# Altium schematic symbol library Schlib1.SchLib: 76 symbols (part 1 of 3)
Pins are listed as number, name and electrical type; pins without a type are passive.

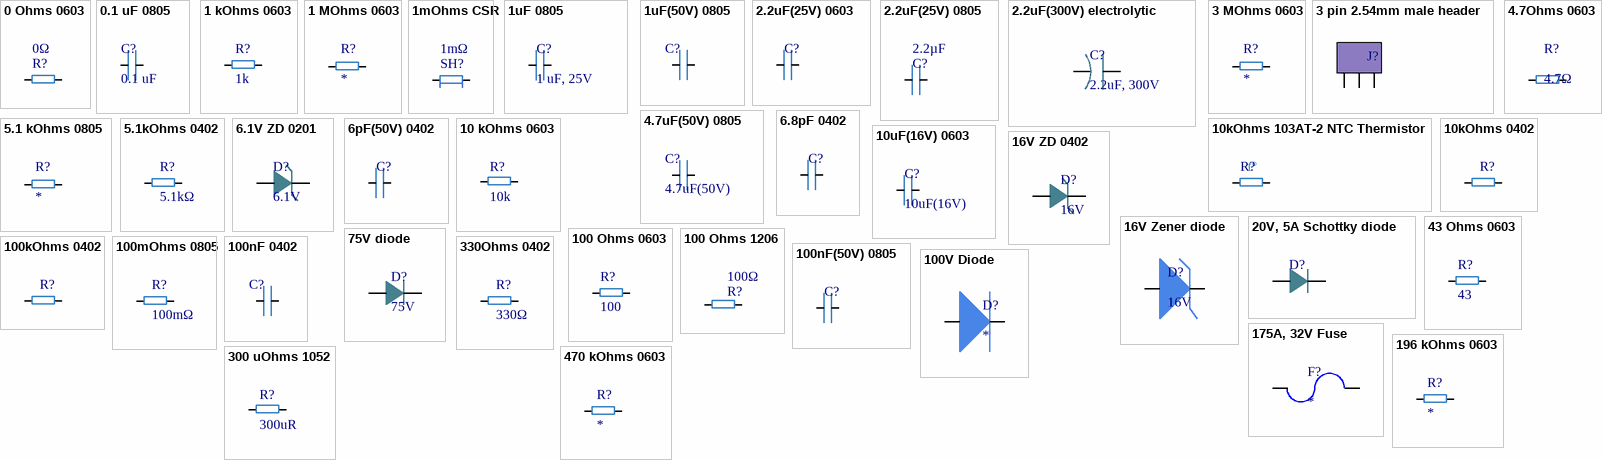
[diagram p0: symbols 0 Ohms 0603 to 470 kOhms 0603]

## 0 Ohms 0603
designator R?, comment value 0Ω  (hidden comment: 0.25W)
Res Metal Plate 0603 0 Ohm Pad SMD T/R Automotive; Manufacturer: Stackpole Electronics; Manufacturer Part Number: HCJ0603ZT0R00; Power Dissipation: 250mW; Supplier: Avnet; Supplier Part Number: HCJ0603ZT0R00; RoHS: Compliant; Category: Chip SMD Resistors; Stock: 155000; Pricing: 5000=0.07857, 10000=0.07432, 20000=0.07237, 40000=0.07051, 80000=0.06875 (USD); Case/Package: 0603; Case Code (Imperial): 0603; Case Code (Metric): 1608; Height: 500µm; Length: 1.5494mm; Lifecycle Status: Production; Max Operating Temperature: 155°C; Min Operating Temperature: -55°C; Mounting Technology: Surface Mount; Number of Terminals: 2; Number of Terminations: 2; Packaging: Tape & Reel (TR); Power Rating: 250mW; Radiation Hardening: No; REACH SVHC: Yes; Schedule B: 8533210045, 8533210045|8533210045, 8533210045|8533210045|8533210045, 8533210045|8533210045|8533210045|8533210045; Termination: Wraparound; Width: 800µm; ComponentLink1URL: https://datasheet.octopart.com:443/HCJ0603ZT0R00-Stackpole-Electronics-datasheet-170576570.pdf?src-supplier=IHS; ComponentLink1Description: https://datasheet.octopart.com:443/HCJ0603ZT0R00-Stackpole-Electronics-datasheet-170576570.pdf?src-supplier=IHS; ComponentLink2URL: https://datasheet.octopart.com:443/HCJ0603ZT0R00-Stackpole-Electronics-datasheet-56871323.pdf?src-supplier=Upverter; ComponentLink2Description: https://datasheet.octopart.com:443/HCJ0603ZT0R00-Stackpole-Electronics-datasheet-56871323.pdf?src-supplier=Upverter; ComponentLink3URL: https://datasheet.octopart.com:443/HCJ0603ZT0R00-Stackpole-Electronics-datasheet-189104157.pdf?src-supplier=Master+Electronics; ComponentLink3Description: https://datasheet.octopart.com:443/HCJ0603ZT0R00-Stackpole-Electronics-datasheet-189104157.pdf?src-supplier=Master+Electronics; ComponentLink4URL: https://datasheet.octopart.com:443/HCJ0603ZT0R00-Stackpole-Electronics-datasheet-141193803.pdf?src-supplier=Stackpole+Electronics; ComponentLink4Description: https://datasheet.octopart.com:443/HCJ0603ZT0R00-Stackpole-Electronics-datasheet-141193803.pdf?src-supplier=Stackpole+Electronics; ComponentLink5URL: https://datasheet.octopart.com:443/HCJ0603ZT0R00-Stackpole-Electronics-datasheet-45185688.pdf?src-supplier=Stackpole+Electronics; ComponentLink5Description: https://datasheet.octopart.com:443/HCJ0603ZT0R00-Stackpole-Electronics-datasheet-45185688.pdf?src-supplier=Stackpole+Electronics; ComponentLink6URL: https://datasheet.octopart.com:443/HCJ0603ZT0R00-Stackpole-Electronics-datasheet-156956881.pdf?src-supplier=Electro+Sonic; ComponentLink6Description: https://datasheet.octopart.com:443/HCJ0603ZT0R00-Stackpole-Electronics-datasheet-156956881.pdf?src-supplier=Electro+Sonic; ComponentLink7URL: http://sigma.octopart.com:80/141158211/reach_statement/Stackpole-Electronics-HCJ0603ZT0R00.pdf?src-supplier=Compliance+Statements; ComponentLink7Description: http://sigma.octopart.com:80/141158211/reach_statement/Stackpole-Electronics-HCJ0603ZT0R00.pdf?src-supplier=Compliance+Statements; ComponentLink8URL: http://sigma.octopart.com:80/141158212/rohs_statement/Stackpole-Electronics-HCJ0603ZT0R00.pdf?src-supplier=Compliance+Statements; ComponentLink8Description: http://sigma.octopart.com:80/141158212/rohs_statement/Stackpole-Electronics-HCJ0603ZT0R00.pdf?src-supplier=Compliance+Statements
footprint BO_CR0603
pins: 1 27, 2 28

## 0.1 uF 0805
designator C?, comment 0.1 uF
Ceramic Capacitor, Multilayer, Ceramic, 50V, 5% +Tol, 5% -Tol, X7R, 15% TC, 0.1uF, Surface Mount, 0805; Manufacturer: Kyocera AVX; Manufacturer Part Number: 08055C104J4T2A; Value: 100nF; Multilayer: Yes; Reference Standard: AEC-Q200; Supplier: Mouser; Supplier Part Number: 581-08055C104J4T2A; RoHS: Yes; Category: Ceramic Capacitors; Stock: 13072; Pricing: 1=0.16, 10=0.088, 50=0.088, 100=0.056, 1000=0.039, 10000=0.026 (USD); Mounting Technology: Surface Mount; Pins: 2; Dielectric Material: Ceramic; Package Shape: Rectangular; Case/Package: 0805; Terminal Finish: Nickel; Min Operating Temperature: -55°C; Max Operating Temperature: 125°C; JESD-609 Code: e3; Capacitor Type: Ceramic; Tolerance  (fill in as +-): 5%; Package Style: SMTMeter; Packaging: Tape and Reel; Tolerance (fill in as +-): 5%; Rated DC Voltage (URdc): 50V; Temperature Characteristics Code: X7R; Termination: Wraparound; Length: 2.01mm; Width: 1.25mm; Height: 1.27mm; Reach SVHC Compliant: Yes; RoHS Compliant: Yes; ComponentLink1URL: https://datasheet.ciiva.com:443/pdfs/VipMasterIC/IC/AVXC/AVXC-S-A0009957027/AVXC-S-A0009957027-1.pdf?src-supplier=IHS+Markit; ComponentLink1Description: https://datasheet.ciiva.com:443/pdfs/VipMasterIC/IC/AVXC/AVXC-S-A0009957027/AVXC-S-A0009957027-1.pdf?src-supplier=IHS+Markit; ComponentLink2URL: https://datasheet.ciiva.com/45259/cauto-45259509.pdf?src-supplier=Digikey; ComponentLink2Description: https://datasheet.ciiva.com/45259/cauto-45259509.pdf?src-supplier=Digikey; ComponentLink3URL: https://datasheet.ciiva.com/11504/cauto-11504263.pdf?src-supplier=Avnet; ComponentLink3Description: https://datasheet.ciiva.com/11504/cauto-11504263.pdf?src-supplier=Avnet; ComponentLink4URL: https://datasheet.ciiva.com/5442/cauto-5442795.pdf?src-supplier=Mouser; ComponentLink4Description: https://datasheet.ciiva.com/5442/cauto-5442795.pdf?src-supplier=Mouser; ComponentLink5URL: https://datasheet.ciiva.com/46449/681197-46449293.pdf?src-supplier=Element14; ComponentLink5Description: https://datasheet.ciiva.com/46449/681197-46449293.pdf?src-supplier=Element14; ComponentLink6URL: https://datasheet.ciiva.com/7812/88813-7812350.pdf?src-supplier=Element14; ComponentLink6Description: https://datasheet.ciiva.com/7812/88813-7812350.pdf?src-supplier=Element14
footprint C0805
pins: 1 26, 2 25

## 1 kOhms 0603
designator R?, comment 1k
Fixed Resistor, Metal Glaze/thick Film, 0.1W, 1000ohm, 75V, 5% +/-Tol, 200ppm/Cel, Surface Mount, 0603; Manufacturer: Bourns; Manufacturer Part Number: CR0603-JW-102ELF; Power: 100mW; Rated Temperature: 70°C; Value: 1kR; Working Voltage: 50V; Temperature Coefficient (ppm/Cel): 200; Package Height: 0.45mm; Package Length: 1.6mm; Package Width: 0.8mm; Supplier: Avnet; Supplier Part Number: CR0603-JW-102ELF; RoHS: Yes; Category: Chip SMD Resistors; Stock: 15000; Pricing: 5000=0.00196, 10000=0.00195, 20000=0.00194, 30000=0.00193, 40000=0.00192 (USD); Mounting Technology: Surface Mount; Pins: 2; Package Shape: Rectangular; Case/Package: 0603; Terminal Finish: Nickel; Min Operating Temperature: -55°C; Max Operating Temperature: 155°C; Tolerance: 5%; JESD-609 Code: e3; Resistor Type: FIXED RESISTOR; Construction: Chip; Packaging: Tape and Reel; Technology: RUTHENIUM OXIDE; Termination: Wraparound; Reach SVHC Compliant: Yes; RoHS Compliant: Yes; ComponentLink1URL: https://datasheet.ciiva.com:443/pdfs/VipMasterIC/IC/BOUR/BOUR-S-A0009069624/BOUR-S-A0009069624-1.pdf?src-supplier=IHS+Markit; ComponentLink1Description: https://datasheet.ciiva.com:443/pdfs/VipMasterIC/IC/BOUR/BOUR-S-A0009069624/BOUR-S-A0009069624-1.pdf?src-supplier=IHS+Markit; ComponentLink2URL: https://datasheet.ciiva.com/7986/1902866-7986188.pdf?src-supplier=Element14; ComponentLink2Description: https://datasheet.ciiva.com/7986/1902866-7986188.pdf?src-supplier=Element14; ComponentLink3URL: https://datasheet.ciiva.com/46383/691949-46383788.pdf?src-supplier=Element14; ComponentLink3Description: https://datasheet.ciiva.com/46383/691949-46383788.pdf?src-supplier=Element14; ComponentLink4URL: https://datasheet.ciiva.com/16757/70154685-16757477.pdf?src-supplier=Allied+Electronics; ComponentLink4Description: https://datasheet.ciiva.com/16757/70154685-16757477.pdf?src-supplier=Allied+Electronics; ComponentLink5URL: https://datasheet.ciiva.com/9123/chpreztr-9123706.pdf?src-supplier=Avnet; ComponentLink5Description: https://datasheet.ciiva.com/9123/chpreztr-9123706.pdf?src-supplier=Avnet; ComponentLink6URL: https://datasheet.ciiva.com/6564/chpreztr-6564439.pdf?src-supplier=Digikey; ComponentLink6Description: https://datasheet.ciiva.com/6564/chpreztr-6564439.pdf?src-supplier=Digikey; ComponentLink7URL: https://datasheet.ciiva.com/6564/chpreztr-6564441.pdf?src-supplier=Digikey; ComponentLink7Description: https://datasheet.ciiva.com/6564/chpreztr-6564441.pdf?src-supplier=Digikey
footprint BO_CR0603
pins: 1 27, 2 28

## 1 MOhms 0603
designator R?
Res Thick Film 0603 1M Ohm 1% 1/10W ±100ppm/°C Molded SMD Paper T/R; Manufacturer: Yageo; Manufacturer Part Number: RC0603FR-071ML; Voltage Rating: 75V; Value: 1MR; Power Rating: 100mW; Application(s): HIGH RELIABILITY; Supplier: Future Electronics; Supplier Part Number: 2912863; RoHS: Yes; Category: Chip SMD Resistors; Stock: 1005000; Pricing: 5000=0.0009, 50000=0.0008, 150000=0.0008, 375000=0.0008, 1000000=0.0008 (USD); Case Code (Imperial): 0603; Case Code (Metric): 1608; Weight: 0.000847oz; Min Operating Temperature: -55°C; Max Operating Temperature: 155°C; Tolerance: 1%; Packaging: Cut Tape; Termination: SMD/SMT; Temperature Coefficient: 100ppm/°C; Package Quantity: 5000; Type: General Purpose; Series: RC; Technology: THICK FILM; Diameter: 10mm; Length: 1.6mm; Width: 0.8mm; Height: 0.45mm; Lead Pitch: 5mm; Radiation Hardening: 5898YesNo; RoHS Compliant: Yes; Lead Free: 5697LeadFree; ComponentLink1URL: https://datasheet.ciiva.com/11819/0900766b80f96399-11819295.pdf?src-supplier=Rs; ComponentLink1Description: https://datasheet.ciiva.com/11819/0900766b80f96399-11819295.pdf?src-supplier=Rs; ComponentLink2URL: https://datasheet.ciiva.com/7983/443971-7983614.pdf?src-supplier=Element14; ComponentLink2Description: https://datasheet.ciiva.com/7983/443971-7983614.pdf?src-supplier=Element14; ComponentLink3URL: https://datasheet.ciiva.com/12555/rc0603-272842-12555388.pdf?src-supplier=Mouser; ComponentLink3Description: https://datasheet.ciiva.com/12555/rc0603-272842-12555388.pdf?src-supplier=Mouser
footprint BO_CR0603
pins: 1 27, 2 28

## 1mOhms CSR
designator SH?, comment value 1mΩ  (hidden comment: 10W)
Res Metal Strip 2818 0.001 Ohm 1% 10W ±200ppm/C Pad SMD Automotive T/R; Manufacturer: Vishay; Manufacturer Part Number: WSHP28181L000FEB; Temperature Coefficient: 200ppm/°C; Working Voltage: 100mV; Supplier: Avnet; Supplier Part Number: WSHP28181L000FEA; RoHS: Compliant; Category: Chip SMD Resistors; Stock: 3500; Pricing: 3500=1.04104, 7000=1.00048, 14000=0.95992, 21000=0.91936, 28000=0.90246 (USD); Case/Package: 2818; Composition: Metal Element; Height: 1.5mm; Lifecycle Status: Production; Max Operating Temperature: 170°C; Min Operating Temperature: -65°C; Mounting Technology: Surface Mount; Number of Terminals: 2; Packaging: Bulk; Power Dissipation: 10W; Power Rating: 10W; Schedule B: 8533210045, 8533210045|8533210045|8533210045|8533210045|8533210045|8533210045|8533210045|8533210045|8533210045|8533210045|8533210045|8533210045|8533210045|8533210045|8533210045|8533210045|8533210045|8533210045|8533210045|8533210045|8533210045|8533210045|8533210045|85; Tolerance: 1%; Width: 4.6mm; ComponentLink1URL: https://datasheet.octopart.com:443/WSHP28181L000FEB-Vishay-datasheet-175423646.pdf?src-supplier=IHS; ComponentLink1Description: https://datasheet.octopart.com:443/WSHP28181L000FEB-Vishay-datasheet-175423646.pdf?src-supplier=IHS; ComponentLink2URL: https://datasheet.octopart.com:443/WSHP28181L000FEB-Vishay-datasheet-169394530.pdf?src-supplier=IHS; ComponentLink2Description: https://datasheet.octopart.com:443/WSHP28181L000FEB-Vishay-datasheet-169394530.pdf?src-supplier=IHS; ComponentLink3URL: https://datasheet.octopart.com:443/WSHP28181L000FEA-Vishay-datasheet-104525430.pdf?src-supplier=Upverter; ComponentLink3Description: https://datasheet.octopart.com:443/WSHP28181L000FEA-Vishay-datasheet-104525430.pdf?src-supplier=Upverter; ComponentLink4URL: https://datasheet.octopart.com:443/WSHP28181L000FEB-Vishay-datasheet-76801956.pdf?src-supplier=element14+APAC; ComponentLink4Description: https://datasheet.octopart.com:443/WSHP28181L000FEB-Vishay-datasheet-76801956.pdf?src-supplier=element14+APAC; ComponentLink5URL: http://sigma.octopart.com:80/rohs_statement/Vishay-company-15.pdf?src-supplier=Compliance+Statements; ComponentLink5Description: http://sigma.octopart.com:80/rohs_statement/Vishay-company-15.pdf?src-supplier=Compliance+Statements
footprint 1mOhms CSR
pins: 1 27, 2 28

## 1uF 0805
designator C?, comment 1 uF, 25V
Ceramic Capacitor, Multilayer, Ceramic, 25V, 10% +Tol, 10% -Tol, X7R, 15% TC, 1uF, Surface Mount, 0805; Manufacturer: Kyocera AVX; Manufacturer Part Number: 08053C105K4Z4A; Multilayer: Yes; Reference Standard: AEC-Q200; Supplier: Avnet; Supplier Part Number: KAF21KR71E105KL; RoHS: Yes; Category: Ceramic Capacitors; Stock: 50000; Pricing: 10000=0.0468, 20000=0.046, 40000=0.0452, 60000=0.0444, 80000=0.0436 (USD); Mounting Technology: Surface Mount; Pins: 2; Dielectric Material: Ceramic; Package Shape: Rectangular; Case/Package: 0805; Terminal Finish: Nickel; Min Operating Temperature: -55°C; Max Operating Temperature: 125°C; JESD-609 Code: e3; Value: 1uF; Capacitor Type: Ceramic; Tolerance  (fill in as +-): 10%; Package Style: SMTMeter; Packaging: Tape and Reel; Tolerance (fill in as +-): 10%; Rated DC Voltage (URdc): 25V; Temperature Characteristics Code: X7R; Termination: Wraparound; Length: 2.01mm; Width: 1.25mm; Height: 1.4mm; Reach SVHC Compliant: Yes; RoHS Compliant: Yes; ComponentLink1URL: https://datasheet.ciiva.com:443/pdfs/VipMasterIC/IC/AVXC/AVXC-S-A0009957027/AVXC-S-A0009957027-1.pdf?src-supplier=IHS+Markit; ComponentLink1Description: https://datasheet.ciiva.com:443/pdfs/VipMasterIC/IC/AVXC/AVXC-S-A0009957027/AVXC-S-A0009957027-1.pdf?src-supplier=IHS+Markit; ComponentLink2URL: http://www.mouser.com/ds/2/40/AutoMLCC-777028.pdf?src-supplier=Mouser; ComponentLink2Description: http://www.mouser.com/ds/2/40/AutoMLCC-777028.pdf?src-supplier=Mouser; ComponentLink3URL: http://datasheets.avx.com/FlexitermMLCC.pdf?src-supplier=Digikey; ComponentLink3Description: http://datasheets.avx.com/FlexitermMLCC.pdf?src-supplier=Digikey; ComponentLink4URL: https://datasheet.octopart.com/08053C105K4Z4A-KYOCERA-AVX-datasheet-50865432.pdf?src-supplier=Future+Electronics; ComponentLink4Description: https://datasheet.octopart.com/08053C105K4Z4A-KYOCERA-AVX-datasheet-50865432.pdf?src-supplier=Future+Electronics; ComponentLink5URL: http://catalogs.avx.com/SurfaceMount.pdf?src-supplier=Digikey; ComponentLink5Description: http://catalogs.avx.com/SurfaceMount.pdf?src-supplier=Digikey
footprint C0805
footprint C0805
pins: 1 26, 2 25

## 1uF(50V) 0805
designator C?, comment 1uF(50V)  (value not drawn)
Ceramic Capacitor, Multilayer, Ceramic, 50V, 10% +Tol, 10% -Tol, X7R, 15% TC, 1uF, Surface Mount, 0805; Manufacturer: Samsung; Manufacturer Part Number: CL21B105KBFNNNE; Multilayer: Yes; Supplier: Digikey; Supplier Part Number: 1276-1029-1-ND; RoHS: Yes; Category: Ceramic Capacitors; Stock: 354021; Pricing: 1=0.08, 10=0.019, 50=0.013, 2000=0.01061 (USD); Mounting Technology: Surface Mount; Pins: 2; Dielectric Material: Ceramic; Package Shape: Rectangular; Case/Package: 0805; Terminal Finish: Nickel; Min Operating Temperature: -55°C; Max Operating Temperature: 125°C; JESD-609 Code: e3; Value: 1uF; Capacitor Type: Ceramic; Tolerance  (fill in as +-): 10%; Package Style: SMTMeter; Packaging: Tape and Reel; Tolerance (fill in as +-): 10%; Rated DC Voltage (URdc): 50V; Temperature Characteristics Code: X7R; Termination: Wraparound; Length: 2mm; Width: 1.25mm; Height: 1.35mm; Reach SVHC Compliant: Yes; RoHS Compliant: Yes; ComponentLink1URL: https://datasheet.ciiva.com:443/pdfs/VipMasterIC/IC/SEMS/SEMS-S-A0008524728/SEMS-S-A0008523023-1.pdf?src-supplier=IHS+Markit; ComponentLink1Description: https://datasheet.ciiva.com:443/pdfs/VipMasterIC/IC/SEMS/SEMS-S-A0008524728/SEMS-S-A0008523023-1.pdf?src-supplier=IHS+Markit; ComponentLink2URL: https://datasheet.ciiva.com/16449/cl21b105kbfnnne-16449003.pdf?src-supplier=Future+Electronics; ComponentLink2Description: https://datasheet.ciiva.com/16449/cl21b105kbfnnne-16449003.pdf?src-supplier=Future+Electronics; ComponentLink3URL: https://datasheet.ciiva.com/25800/cl21b105kbfnnne-25800291.pdf?src-supplier=Digikey; ComponentLink3Description: https://datasheet.ciiva.com/25800/cl21b105kbfnnne-25800291.pdf?src-supplier=Digikey
pins: 1 26, 2 25

## 2.2uF(25V) 0603
designator C?, comment 2.2uF(25V)  (value not drawn)
Ceramic Capacitor, Multilayer, Ceramic, 25V, 10% +Tol, 10% -Tol, X5R, 15% TC, 2.2uF, Surface Mount, 0603; Manufacturer: Taiyo Yuden; Manufacturer Part Number: TMK107ABJ225KA-T; Multilayer: Yes; Supplier: Digikey; Supplier Part Number: 587-2909-1-ND; RoHS: Yes; Category: Ceramic Capacitors; Stock: 199572; Pricing: 1=0.08, 10=0.019 (USD); Mounting Technology: Surface Mount; Pins: 2; Dielectric Material: Ceramic; Package Shape: Rectangular; Case/Package: 0603; Min Operating Temperature: -55°C; Max Operating Temperature: 85°C; Value: 2.2uF; Capacitor Type: Ceramic; Tolerance  (fill in as +-): 10%; Package Style: SMTMeter; Packaging: Tape and Reel; Tolerance (fill in as +-): 10%; Rated DC Voltage (URdc): 25V; Temperature Characteristics Code: X5R; Termination: Wraparound; Length: 1.6mm; Width: 0.8mm; Height: 0.8mm; Reach SVHC Compliant: Yes; RoHS Compliant: Yes; ComponentLink1URL: https://datasheet.ciiva.com:443/pdfs/VipMasterIC/IC/TAIY/TAIY-S-A0008883757/TAIY-S-A0008883936-1.pdf?src-supplier=IHS+Markit; ComponentLink1Description: https://datasheet.ciiva.com:443/pdfs/VipMasterIC/IC/TAIY/TAIY-S-A0008883757/TAIY-S-A0008883936-1.pdf?src-supplier=IHS+Markit; ComponentLink2URL: https://datasheet.ciiva.com/136/tmk107abj225ka-t-ss-136533.pdf?src-supplier=Digikey; ComponentLink2Description: https://datasheet.ciiva.com/136/tmk107abj225ka-t-ss-136533.pdf?src-supplier=Digikey; ComponentLink3URL: https://datasheet.ciiva.com/15922/597tmk107abj225ka-t-15922328.pdf?src-supplier=Onlinecomponents.com; ComponentLink3Description: https://datasheet.ciiva.com/15922/597tmk107abj225ka-t-15922328.pdf?src-supplier=Onlinecomponents.com; ComponentLink4URL: https://datasheet.ciiva.com/30123/116tmk107abj225ka-t-30123351.pdf?src-supplier=Onlinecomponents.com; ComponentLink4Description: https://datasheet.ciiva.com/30123/116tmk107abj225ka-t-30123351.pdf?src-supplier=Onlinecomponents.com
pins: 1 26, 2 25

## 2.2uF(25V) 0805
designator C?, comment value 2.2µF  (hidden comment: 2.2uF)
Ceramic Capacitor, Ceramic, 25V, 10% +Tol, 10% -Tol, X7R, 15% TC, 2.2uF, Surface Mount, 0805; Manufacturer: Murata; Manufacturer Part Number: GCM21BR71E225KA73L; Manufacturer Lifecycle Status: IN PRODUCTION; Supplier: Arrow Electronics; Supplier Part Number: GCM21BR71E225KA73L; RoHS: Compliant; Category: Ceramic Capacitors; Stock: 2343000; Pricing: 3000=0.0515, 6000=0.05, 9000=0.046 (USD); Case/Package: 0805; Case Code (Imperial): 0805; Case Code (Metric): 2012; Depth: 1.25mm; Dielectric: X7R; Dielectric Material: Ceramic; Height: 1.25mm; Lead Free: Lead Free; Length: 2mm; Lifecycle Status: Production; Material: Ceramic; Max Operating Temperature: 125°C; Min Operating Temperature: -55°C; Mounting Technology: Surface Mount; Number of Terminals: 2; Packaging: Cut Tape; Radiation Hardening: No; Ratings: AEC-Q200; REACH SVHC: Yes; Schedule B: 8532240020, 8532240020|8532240020, 8532240020|8532240020|8532240020, 8532240020|8532240020|8532240020|8532240020; Termination: SMD/SMT; Tolerance: 10%; Voltage: 25V; Voltage Rating: 25V; Voltage Rating (DC): 25V; Width: 1.25mm; ComponentLink1URL: https://datasheet.octopart.com:443/GCM21BR71E225KA73L-Murata-datasheet-39128454.pdf?src-supplier=Newark; ComponentLink1Description: https://datasheet.octopart.com:443/GCM21BR71E225KA73L-Murata-datasheet-39128454.pdf?src-supplier=Newark; ComponentLink2URL: https://datasheet.octopart.com:443/GCM21BR71E225KA73L-Murata-datasheet-62316965.pdf?src-supplier=element14+APAC; ComponentLink2Description: https://datasheet.octopart.com:443/GCM21BR71E225KA73L-Murata-datasheet-62316965.pdf?src-supplier=element14+APAC; ComponentLink3URL: https://datasheet.octopart.com:443/GCM21BR71E225KA73L-Murata-datasheet-141268671.pdf?src-supplier=Geoflip; ComponentLink3Description: https://datasheet.octopart.com:443/GCM21BR71E225KA73L-Murata-datasheet-141268671.pdf?src-supplier=Geoflip; ComponentLink4URL: https://datasheet.octopart.com/GCM21BR71E225KA73L-Murata-datasheet-12524114.pdf; ComponentLink4Description: https://datasheet.octopart.com/GCM21BR71E225KA73L-Murata-datasheet-12524114.pdf; ComponentLink5URL: https://datasheet.octopart.com:443/GCM21BR71E225KA73L-Murata-datasheet-178519998.pdf?src-supplier=Arrow.cn; ComponentLink5Description: https://datasheet.octopart.com:443/GCM21BR71E225KA73L-Murata-datasheet-178519998.pdf?src-supplier=Arrow.cn; ComponentLink6URL: https://datasheet.octopart.com:443/GCM21BR71E225KA73L-Murata-datasheet-140660268.pdf?src-supplier=Ciiva; ComponentLink6Description: https://datasheet.octopart.com:443/GCM21BR71E225KA73L-Murata-datasheet-140660268.pdf?src-supplier=Ciiva; ComponentLink7URL: https://datasheet.octopart.com:443/GCM21BR71E225KA73L-Murata-datasheet-138719632.pdf?src-supplier=Ciiva; ComponentLink7Description: https://datasheet.octopart.com:443/GCM21BR71E225KA73L-Murata-datasheet-138719632.pdf?src-supplier=Ciiva; ComponentLink8URL: https://datasheet.octopart.com:443/GCM21BR71E225KA73L-Murata-datasheet-81857033.pdf?src-supplier=TME; ComponentLink8Description: https://datasheet.octopart.com:443/GCM21BR71E225KA73L-Murata-datasheet-81857033.pdf?src-supplier=TME; ComponentLink9URL: https://datasheet.octopart.com:443/GCM21BR71E225KA73L-Murata-datasheet-44104626.pdf?src-supplier=Future+Electronics; ComponentLink9Description: https://datasheet.octopart.com:443/GCM21BR71E225KA73L-Murata-datasheet-44104626.pdf?src-supplier=Future+Electronics; ComponentLink10URL: http://sigma.octopart.com:80/reach_statement/Murata-company-16.pdf?src-supplier=Compliance+Statements; ComponentLink10Description: http://sigma.octopart.com:80/reach_statement/Murata-company-16.pdf?src-supplier=Compliance+Statements
footprint C0805
pins: 1 26, 2 25

## 2.2uF(300V) electrolytic
designator C?, comment 2.2uF, 300V
2.2Uf 300V 7.14X23.8 Axi |Vishay 600D225F300KD4; Manufacturer: Sprague; Value: 2.2µF; Polarity: Polar; Tolerance: 50%; Supplier: Avnet; Supplier Part Number: 600D225F300KD4; Manufacturer Part Number: 600D225F300KD4; Category: Aluminum Electrolytic Capacitors; Pricing: 73=18.081, 146=16.13625, 292=16.0535, 438=15.97075, 584=15.888 (USD); Case/Package: Axial; Length: 23.7998mm; Max Operating Temperature: 125°C; Min Operating Temperature: -55°C; Mounting Technology: Through Hole; RoHS: Non-Compliant; Voltage Rating: 300V; ComponentLink1URL: http://sigma.octopart.com:80/rohs_statement/Vishay-company-15.pdf?src-supplier=Compliance+Statements; ComponentLink1Description: http://sigma.octopart.com:80/rohs_statement/Vishay-company-15.pdf?src-supplier=Compliance+Statements
pins: 1, 2

## 3 MOhms 0603
designator R?
Res Thick Film 0603 3M Ohm 1% 0.1W(1/10W) ±200ppm/C Pad SMD Automotive T/R; Manufacturer: Stackpole Electronics; Manufacturer Part Number: RMCF0603FT3M00; Value: 3MR; Max Power Dissipation: 100mW; Temperature Coefficient: 200ppm/°C; Voltage Rating: 75V; Supplier: Digikey; Supplier Part Number: RMCF0603FT3M00CT-ND; RoHS: Yes; Category: Chip SMD Resistors; Stock: 466187; Pricing: 1=0.1, 10=0.024, 100=0.0116, 1000=0.00629, 2500=0.00518 (USD); Mounting Technology: Surface Mount; Case/Package: 0603; Case Code (Metric): 1608; Case Code (Imperial): 0603; Contact Plating: Tin,Matte; Min Operating Temperature: -55°C; Max Operating Temperature: 155°C; Packaging: Tape and Reel; Tolerance: 1%; Package Quantity: 5000; Number of Terminations: 2; Features: Automotive AEC-Q200; Series: RMCF; Length: 0.061inch; Width: 0.031inch; Height: 0.022inch; Ratings: AEC-Q200; Radiation Hardening: No; RoHS Compliant: Yes; ComponentLink1URL: http://www.seielect.com/Catalog/SEI-RMCF_RMCP.pdf?src-supplier=Digikey; ComponentLink1Description: http://www.seielect.com/Catalog/SEI-RMCF_RMCP.pdf?src-supplier=Digikey; ComponentLink2URL: https://www.seielect.com/catalog/SEI-RMCF_RMCP.pdf?src-supplier=Avnet; ComponentLink2Description: https://www.seielect.com/catalog/SEI-RMCF_RMCP.pdf?src-supplier=Avnet; ComponentLink3URL: https://www.seielect.com/Catalog/SEI-RMCF_RMCP.pdf?src-supplier=Digikey; ComponentLink3Description: https://www.seielect.com/Catalog/SEI-RMCF_RMCP.pdf?src-supplier=Digikey; ComponentLink4URL: https://www.seielect.com/catalog/SEI-Packaging.pdf?src-supplier=Digikey; ComponentLink4Description: https://www.seielect.com/catalog/SEI-Packaging.pdf?src-supplier=Digikey; ComponentLink5URL: https://datasheet.octopart.com/RMCF0603FT3M00-Stackpole-Electronics-datasheet-141193804.pdf?src-supplier=Master+Electronics; ComponentLink5Description: https://datasheet.octopart.com/RMCF0603FT3M00-Stackpole-Electronics-datasheet-141193804.pdf?src-supplier=Master+Electronics
footprint BO_CR0603
pins: 1 27, 2 28

## 3 pin 2.54mm male header
designator J?, comment 3 pin jumper  (value not drawn)
footprint 3 pin 2.54mm male header
pins: 1, 2, 3

## 4.7Ohms 0603
designator R?, comment 4.7Ω
Res Thick Film 0603 4.7 Ohm 5% 0.1W(1/10W) ±200ppm/C Pad SMD T/R; Manufacturer: Bourns; Manufacturer Part Number: CR0603-J/-4R7ELF; Max Power Dissipation: 100mW; Temperature Coefficient: 400ppm/°C; Voltage Rating: 75V; Supplier: DigiKey; Supplier Part Number: CR0603-J/-4R7ELFCT-ND; RoHS: Compliant; Category: Chip SMD Resistors; Stock: 40953; Pricing: 1=0.1, 10=0.023, 25=0.0172, 50=0.0136, 100=0.0111, 250=0.00856, 500=0.00712, 1000=0.00601 (USD); Case/Package: 0603; Case Code (Imperial): 0603; Case Code (Metric): 1608; China RoHS: Non-Compliant; Composition: Thick Film; Contact Plating: Tin; Depth: 800µm; Height: 450µm; Lifecycle Status: Production; Max Operating Temperature: 155°C; Military Standard: Not; Min Operating Temperature: -55°C; Mounting Technology: Surface Mount; Number of Terminals: 2; Power Dissipation: 100mW; Power Rating: 100mW; Radiation Hardening: No; REACH SVHC: Yes; Value: 4.7Ω; Schedule B: 8533210025, 8533210045, 8533210045|8533210045, 8533210045|8533210045|8533210045; Termination: SMD/SMT; Tolerance: 5%; Width: 800µm; Working Voltage: 75V; ComponentLink1URL: https://datasheet.octopart.com:443/CR0603-J--4R7ELF-Bourns-datasheet-159578630.pdf?src-supplier=IHS; ComponentLink1Description: https://datasheet.octopart.com:443/CR0603-J--4R7ELF-Bourns-datasheet-159578630.pdf?src-supplier=IHS; ComponentLink2URL: https://datasheet.octopart.com:443/CR0603-J--4R7ELF-Bourns-datasheet-181955239.pdf?src-supplier=IHS; ComponentLink2Description: https://datasheet.octopart.com:443/CR0603-J--4R7ELF-Bourns-datasheet-181955239.pdf?src-supplier=IHS; ComponentLink3URL: https://datasheet.octopart.com:443/CR0603-J--4R7ELF-Bourns-datasheet-68301634.pdf?src-supplier=Burklin+Elektronik; ComponentLink3Description: https://datasheet.octopart.com:443/CR0603-J--4R7ELF-Bourns-datasheet-68301634.pdf?src-supplier=Burklin+Elektronik; ComponentLink4URL: https://datasheet.octopart.com/CR0603-J/-4R7ELF-Bourns-datasheet-5318152.pdf; ComponentLink4Description: https://datasheet.octopart.com/CR0603-J/-4R7ELF-Bourns-datasheet-5318152.pdf; ComponentLink5URL: https://datasheet.octopart.com:443/CR0603-J--4R7ELF-Bourns-datasheet-154729663.pdf?src-supplier=Electro+Sonic; ComponentLink5Description: https://datasheet.octopart.com:443/CR0603-J--4R7ELF-Bourns-datasheet-154729663.pdf?src-supplier=Electro+Sonic; ComponentLink6URL: https://datasheet.octopart.com:443/CR0603-J--4R7ELF-Bourns-datasheet-34229249.pdf?src-supplier=Electro+Sonic; ComponentLink6Description: https://datasheet.octopart.com:443/CR0603-J--4R7ELF-Bourns-datasheet-34229249.pdf?src-supplier=Electro+Sonic; ComponentLink7URL: https://datasheet.octopart.com:443/CR0603-J--4R7ELF-Bourns-datasheet-11547086.pdf?src-supplier=Electro+Sonic; ComponentLink7Description: https://datasheet.octopart.com:443/CR0603-J--4R7ELF-Bourns-datasheet-11547086.pdf?src-supplier=Electro+Sonic; ComponentLink8URL: https://datasheet.octopart.com:443/CR0603-J--4R7ELF-Bourns-datasheet-140567134.pdf?src-supplier=Arrow.cn; ComponentLink8Description: https://datasheet.octopart.com:443/CR0603-J--4R7ELF-Bourns-datasheet-140567134.pdf?src-supplier=Arrow.cn; ComponentLink9URL: http://sigma.octopart.com:80/conflict_mineral_statement/Bourns-company-36.pdf?src-supplier=Compliance+Statements; ComponentLink9Description: http://sigma.octopart.com:80/conflict_mineral_statement/Bourns-company-36.pdf?src-supplier=Compliance+Statements
pins: 1 27, 2 28

## 4.7uF(50V) 0805
designator C?, comment 4.7uF(50V)
Ceramic Capacitor, Multilayer, Ceramic, 50V, 10% +Tol, 10% -Tol, X5R, 15% TC, 4.7uF, Surface Mount, 0805; Manufacturer: Murata; Manufacturer Part Number: GRM21BR61H475KE51L; Multilayer: Yes; Supplier: Mouser; Supplier Part Number: 81-GRM21BR61H475KE1L; RoHS: Yes; Category: Ceramic Capacitors; Stock: 51409; Pricing: 1=0.19, 10=0.108, 50=0.108, 100=0.068, 1000=0.051, 10000=0.034 (USD); Mounting Technology: Surface Mount; Pins: 2; Dielectric Material: Ceramic; Package Shape: Rectangular; Case/Package: 0805; Terminal Finish: Nickel; Min Operating Temperature: -55°C; Max Operating Temperature: 85°C; Termination: Wraparound; JESD-609 Code: e3; Value: 4.7uF; Capacitor Type: Ceramic; Tolerance  (fill in as +-): 10%; Package Style: SMTMeter; Packaging: Tape and Reel; Tolerance (fill in as +-): 10%; Rated DC Voltage (URdc): 50V; Temperature Characteristics Code: X5R; Length: 2mm; Width: 1.25mm; Height: 1.25mm; Reach SVHC Compliant: Yes; RoHS Compliant: Yes; ComponentLink1URL: https://datasheet.ciiva.com:443/pdfs/VipMasterIC/IC/MURE/MURE-S-A0004349797/MURE-S-A0004361460-1.pdf?src-supplier=IHS+Markit; ComponentLink1Description: https://datasheet.ciiva.com:443/pdfs/VipMasterIC/IC/MURE/MURE-S-A0004349797/MURE-S-A0004361460-1.pdf?src-supplier=IHS+Markit; ComponentLink2URL: http://www.farnell.com/datasheets/2079186.pdf?src-supplier=Farnell; ComponentLink2Description: http://www.farnell.com/datasheets/2079186.pdf?src-supplier=Farnell; ComponentLink3URL: https://datasheet.octopart.com/GRM21BR61H475KE51L-Murata-datasheet-22122223.pdf?src-supplier=Future+Electronics; ComponentLink3Description: https://datasheet.octopart.com/GRM21BR61H475KE51L-Murata-datasheet-22122223.pdf?src-supplier=Future+Electronics; ComponentLink4URL: http://www.farnell.com/datasheets/2079186.pdf?src-supplier=Element14; ComponentLink4Description: http://www.farnell.com/datasheets/2079186.pdf?src-supplier=Element14; ComponentLink5URL: https://datasheet.octopart.com/GRM21BR61H475KE51L-Murata-datasheet-66077112.pdf?src-supplier=Element14; ComponentLink5Description: https://datasheet.octopart.com/GRM21BR61H475KE51L-Murata-datasheet-66077112.pdf?src-supplier=Element14; ComponentLink6URL: http://search.murata.co.jp/Ceramy/image/img/A01X/G101/ENG/GRM21BR61H475KE51-01.pdf?src-supplier=Digikey; ComponentLink6Description: http://search.murata.co.jp/Ceramy/image/img/A01X/G101/ENG/GRM21BR61H475KE51-01.pdf?src-supplier=Digikey; ComponentLink7URL: https://search.murata.co.jp/Ceramy/image/img/A01X/G101/ENG/GRM21BR61H475KE51-01.pdf?src-supplier=Digikey; ComponentLink7Description: https://search.murata.co.jp/Ceramy/image/img/A01X/G101/ENG/GRM21BR61H475KE51-01.pdf?src-supplier=Digikey
footprint C0805
pins: 1 26, 2 25

## 5.1 kOhms 0805
designator R?
Res 5.1K Ohm 0.5% 1/2W 0805; Manufacturer: Panasonic; Manufacturer Part Number: ERJ-UP6D5101V; Supplier: Mouser; Supplier Part Number: 667-ERJ-UP6D5101V; RoHS: No; Stock: 6152; Pricing: 1=0.28, 10=0.143, 50=0.143, 100=0.083, 1000=0.054, 10000=0.039 (USD)
footprint C0805
footprint R0805
pins: 1 27, 2 28

## 5.1kOhms 0402
designator R?, comment 5.1kΩ
Fixed Resistor, Metal Glaze/thick Film, 0.0625W, 5100ohm, 50V, 5% +/-Tol, 200ppm/Cel, Surface Mount, 0402; Manufacturer: Bourns; Manufacturer Part Number: CR0402-JW-512GLF; Manufacturer Series: CR0402; Power: 62.5mW; Rated Temperature: 70°C; Value: 5.1kR; Temperature Coefficient (ppm/Cel): 200; Package Height: 0.35mm; Package Length: 1mm; Package Width: 0.5mm; Supplier: Digikey; Supplier Part Number: CR0402-JW-512GLFCT-ND; RoHS: Yes; Category: Chip SMD Resistors; Stock: 30963; Pricing: 1=0.1, 10=0.014, 25=0.0096, 50=0.0076, 100=0.006, 250=0.00448, 500=0.00366, 1000=0.003, 5000=0.00259 (USD); Mounting Technology: Surface Mount; Pins: 2; Package Shape: Rectangular; Case/Package: 0402; Terminal Finish: Nickel; Min Operating Temperature: -55°C; Max Operating Temperature: 125°C; Tolerance: 5%; JESD-609 Code: e3; Resistor Type: FIXED RESISTOR; Construction: Chip; Packaging: Tape and Reel; Series: CR0402; Technology: RUTHENIUM OXIDE; Termination: Wraparound; Working Voltage: 50V; Reach SVHC Compliant: No; RoHS Compliant: Yes; ComponentLink1URL: https://datasheet.ciiva.com:443/pdfs/VipMasterIC/IC/BOUR/BOUR-S-A0008953887/BOUR-S-A0008953887-1.pdf?src-supplier=IHS+Markit; ComponentLink1Description: https://datasheet.ciiva.com:443/pdfs/VipMasterIC/IC/BOUR/BOUR-S-A0008953887/BOUR-S-A0008953887-1.pdf?src-supplier=IHS+Markit; ComponentLink2URL: http://components.arrow.com/part/dataview/42912554S3173159N1506?src-supplier=Arrow+Electronics; ComponentLink2Description: http://components.arrow.com/part/dataview/42912554S3173159N1506?src-supplier=Arrow+Electronics; ComponentLink3URL: http://www.onlinecomponents.com/datasheet/cr0402-jw-512glf.aspx?p=10743561&src-supplier=Onlinecomponents.com; ComponentLink3Description: http://www.onlinecomponents.com/datasheet/cr0402-jw-512glf.aspx?p=10743561&src-supplier=Onlinecomponents.com; ComponentLink4URL: http://www.mouser.com/ds/2/54/r0402-777514.pdf?src-supplier=Mouser; ComponentLink4Description: http://www.mouser.com/ds/2/54/r0402-777514.pdf?src-supplier=Mouser; ComponentLink5URL: https://www.bourns.com/docs/Product-Datasheets/CR0402.pdf?src-supplier=Digikey; ComponentLink5Description: https://www.bourns.com/docs/Product-Datasheets/CR0402.pdf?src-supplier=Digikey; ComponentLink6URL: http://www.bourns.com/docs/Product-Datasheets/CR0402.pdf?src-supplier=Digikey; ComponentLink6Description: http://www.bourns.com/docs/Product-Datasheets/CR0402.pdf?src-supplier=Digikey; ComponentLink7URL: http://www.bourns.com/pdfs/CR0402.pdf?src-supplier=Avnet; ComponentLink7Description: http://www.bourns.com/pdfs/CR0402.pdf?src-supplier=Avnet; ComponentLink8URL: https://datasheet.octopart.com/CR0402-JW-512GLF-Bourns-datasheet-159578630.pdf?src-supplier=Electro+Sonic; ComponentLink8Description: https://datasheet.octopart.com/CR0402-JW-512GLF-Bourns-datasheet-159578630.pdf?src-supplier=Electro+Sonic
pins: 1 27, 2 28

## 6.1V ZD 0201
designator D?, comment 6.1V
- Clamp - Ipp Tvs Diode Surface Mount ST0201; MF: STMicroelectronics; MP: ESDALC6V1-1U2; SnapEDA_Link: https://www.snapeda.com/parts/ESDALC6V1-1U2/STMicroelectronics/view-part/?ref=snap; Package: 0201 STMicroelectronics; Value: *; Check_prices: https://www.snapeda.com/parts/ESDALC6V1-1U2/STMicroelectronics/view-part/?ref=eda
footprint DIODE_ESDALC6V1-1U2
pins: 1, 2

## 6.8pF 0402
designator C?, comment 6.8pF(50V)  (value not drawn)
Ceramic Capacitor, Multilayer, Ceramic, 50V, 0.74% +Tol, 0.74% -Tol, C0G, 30ppm/Cel TC, 0.0000068uF, Surface Mount, 0402; Manufacturer: Murata; Manufacturer Part Number: GJM1555C1H6R8WB01D; Multilayer: Yes; Supplier: Digikey; Supplier Part Number: 490-14447-1-ND; RoHS: Yes; Category: Ceramic Capacitors; Stock: 99411; Pricing: 1=0.16, 10=0.093, 50=0.0656, 100=0.0573, 500=0.04326, 1000=0.03895, 2500=0.0344, 5000=0.03176 (USD); Mounting Technology: Surface Mount; Pins: 2; Dielectric Material: Ceramic; Package Shape: Rectangular; Case/Package: 0402; Terminal Finish: Nickel; Min Operating Temperature: -55°C; Max Operating Temperature: 125°C; JESD-609 Code: e3; Value: 6.8pF; Capacitor Type: Ceramic; Tolerance  (fill in as +-): 0.74%; Package Style: SMTMeter; Packaging: Tape and Reel; Tolerance (fill in as +-): 0.74%; Rated DC Voltage (URdc): 50V; Temperature Characteristics Code: C0G; Termination: Wraparound; Length: 1mm; Width: 0.5mm; Height: 0.5mm; Reach SVHC Compliant: Yes; RoHS Compliant: Yes; ComponentLink1URL: https://datasheet.ciiva.com:443/pdfs/VipMasterIC/IC/MURE/MURE-S-A0004378008/MURE-S-A0004382716-1.pdf?src-supplier=IHS+Markit; ComponentLink1Description: https://datasheet.ciiva.com:443/pdfs/VipMasterIC/IC/MURE/MURE-S-A0004378008/MURE-S-A0004382716-1.pdf?src-supplier=IHS+Markit; ComponentLink2URL: http://search.murata.co.jp/Ceramy/image/img/A01X/G101/ENG/GJM1555C1H6R8WB01-01.pdf?src-supplier=Digikey; ComponentLink2Description: http://search.murata.co.jp/Ceramy/image/img/A01X/G101/ENG/GJM1555C1H6R8WB01-01.pdf?src-supplier=Digikey; ComponentLink3URL: https://search.murata.co.jp/Ceramy/image/img/A01X/G101/ENG/GJM1555C1H6R8WB01-01.pdf?src-supplier=Digikey; ComponentLink3Description: https://search.murata.co.jp/Ceramy/image/img/A01X/G101/ENG/GJM1555C1H6R8WB01-01.pdf?src-supplier=Digikey; ComponentLink4URL: https://datasheet.octopart.com/GJM1555C1H6R8WB01D-Murata-datasheet-165579666.pdf?src-supplier=TME; ComponentLink4Description: https://datasheet.octopart.com/GJM1555C1H6R8WB01D-Murata-datasheet-165579666.pdf?src-supplier=TME
pins: 1 26, 2 25

## 6pF(50V) 0402
designator C?, comment 6pF, 50V  (value not drawn)
6 pF ±0.1pF 50V Ceramic Capacitor C0G, NP0 0402 (1005 Metric); Manufacturer Product Number: 0402N6R0B500HI
pins: 1 26, 2 25

## 10 kOhms 0603
designator R?, comment 10k
Fixed Resistor, Metal Glaze/thick Film, 0.1W, 10000ohm, 75V, 1% +/-Tol, 100ppm/Cel, Surface Mount, 0603; Manufacturer: Bourns; Manufacturer Part Number: CR0603-FX-1002ELF; Power: 100mW; Rated Temperature: 70°C; Value: 10kR; Working Voltage: 50V; Temperature Coefficient (ppm/Cel): 100; Package Height: 0.45mm; Package Length: 1.6mm; Package Width: 0.8mm; Supplier: Avnet; Supplier Part Number: CR0603-FX-1002ELF; RoHS: Yes; Category: Chip SMD Resistors; Stock: 95000; Pricing: 5000=0.00217, 10000=0.00213, 20000=0.0021, 30000=0.00207, 40000=0.00203 (USD); Mounting Technology: Surface Mount; Pins: 2; Package Shape: Rectangular; Case/Package: 0603; Terminal Finish: Nickel; Min Operating Temperature: -55°C; Max Operating Temperature: 155°C; Tolerance: 1%; Termination: Wraparound; JESD-609 Code: e3; Resistor Type: FIXED RESISTOR; Construction: Chip; Packaging: Tape and Reel; Technology: RUTHENIUM OXIDE; Reach SVHC Compliant: Yes; RoHS Compliant: Yes; ComponentLink1URL: https://datasheet.ciiva.com:443/pdfs/VipMasterIC/IC/BOUR/BOUR-S-A0009069624/BOUR-S-A0009069624-1.pdf?src-supplier=IHS+Markit; ComponentLink1Description: https://datasheet.ciiva.com:443/pdfs/VipMasterIC/IC/BOUR/BOUR-S-A0009069624/BOUR-S-A0009069624-1.pdf?src-supplier=IHS+Markit; ComponentLink2URL: https://datasheet.ciiva.com/11808/0900766b80fcdb72-11808032.pdf?src-supplier=Rs; ComponentLink2Description: https://datasheet.ciiva.com/11808/0900766b80fcdb72-11808032.pdf?src-supplier=Rs; ComponentLink3URL: https://datasheet.ciiva.com/27049/774903-27049975.pdf?src-supplier=Jameco; ComponentLink3Description: https://datasheet.ciiva.com/27049/774903-27049975.pdf?src-supplier=Jameco; ComponentLink4URL: https://datasheet.ciiva.com/22644/1849498-22644171.pdf?src-supplier=Element14; ComponentLink4Description: https://datasheet.ciiva.com/22644/1849498-22644171.pdf?src-supplier=Element14; ComponentLink5URL: https://datasheet.ciiva.com/22693/1902866-22693206.pdf?src-supplier=Element14; ComponentLink5Description: https://datasheet.ciiva.com/22693/1902866-22693206.pdf?src-supplier=Element14; ComponentLink6URL: https://datasheet.ciiva.com/5548/chpreztr-5548911.pdf?src-supplier=Mouser; ComponentLink6Description: https://datasheet.ciiva.com/5548/chpreztr-5548911.pdf?src-supplier=Mouser; ComponentLink7URL: https://datasheet.ciiva.com/16757/70154685-16757483.pdf?src-supplier=Allied+Electronics; ComponentLink7Description: https://datasheet.ciiva.com/16757/70154685-16757483.pdf?src-supplier=Allied+Electronics; ComponentLink8URL: https://datasheet.ciiva.com/3255/chpreztr-3255918.pdf?src-supplier=Avnet; ComponentLink8Description: https://datasheet.ciiva.com/3255/chpreztr-3255918.pdf?src-supplier=Avnet; ComponentLink9URL: https://datasheet.ciiva.com/7001/1902866-7001623.pdf?src-supplier=Newark; ComponentLink9Description: https://datasheet.ciiva.com/7001/1902866-7001623.pdf?src-supplier=Newark
footprint BO_CR0603
pins: 1 27, 2 28

## 10kOhms 103AT-2 NTC Thermistor
designator R?, comment Thermistor  (value not drawn)
NTC Thermistor, 10000ohm, Through Hole Mount; Manufacturer: Semitec; Manufacturer Part Number: 103AT-2; Power Dissipation: 10mW; Value: 10kΩ; Tolerance: 1%; Supplier: Mouser; Supplier Part Number: 954-103AT-2; RoHS: Compliant; Category: Thermistors; Stock: 17162; Pricing: 1=0.58, 10=0.545, 50=0.485, 100=0.462, 1000=0.4, 10000=0.366 (USD); Case/Package: Radial; Height: 4mm; Lead Pitch: 2.54mm; Length: 17mm; Lifecycle Status: Production; Max Operating Temperature: 110°C; Min Operating Temperature: -50°C; Pins: 2; Number of Terminals: 2; Packaging: Bulk; Power Rating: 10mW; Termination: Radial; Width: 2.4mm; ComponentLink1URL: https://datasheet.octopart.com:443/103AT-2-Semitec-datasheet-182147832.pdf?src-supplier=IHS; ComponentLink1Description: https://datasheet.octopart.com:443/103AT-2-Semitec-datasheet-182147832.pdf?src-supplier=IHS; ComponentLink2URL: https://datasheet.octopart.com:443/103AT-2-Semitec-datasheet-151884368.pdf?src-supplier=Upverter; ComponentLink2Description: https://datasheet.octopart.com:443/103AT-2-Semitec-datasheet-151884368.pdf?src-supplier=Upverter
footprint AT-2_SMI
pins: 1 27, 2 28
text: t°

## 10kOhms 0402
designator R?, comment 10kΩ  (value not drawn)
Fixed Resistor, Metal Glaze/thick Film, 0.0625W, 10000ohm, 50V, 1% +/-Tol, 100ppm/Cel, Surface Mount, 0402; Manufacturer: Bourns; Manufacturer Part Number: CR0402-FX-1002GLF; Power: 62.5mW; Rated Temperature: 70°C; Value: 10kR; Temperature Coefficient (ppm/Cel): 100; Package Height: 0.35mm; Package Length: 1mm; Package Width: 0.5mm; Supplier: Digikey; Supplier Part Number: CR0402-FX-1002GLFCT-ND; RoHS: Yes; Category: Chip SMD Resistors; Stock: 1620138; Pricing: 1=0.1, 10=0.014, 25=0.01, 50=0.008, 100=0.0063, 250=0.00472, 500=0.00384, 1000=0.00316, 5000=0.00211 (USD); Mounting Technology: Surface Mount; Pins: 2; Package Shape: Rectangular; Case/Package: 0402; Terminal Finish: Nickel; Min Operating Temperature: -55°C; Max Operating Temperature: 125°C; Tolerance: 1%; JESD-609 Code: e3; Resistor Type: FIXED RESISTOR; Construction: Chip; Packaging: Tape and Reel; Technology: RUTHENIUM OXIDE; Termination: Wraparound; Working Voltage: 50V; Reach SVHC Compliant: No; RoHS Compliant: Yes; ComponentLink1URL: https://datasheet.ciiva.com:443/pdfs/VipMasterIC/IC/BOUR/BOUR-S-A0008953887/BOUR-S-A0008953887-1.pdf?src-supplier=IHS+Markit; ComponentLink1Description: https://datasheet.ciiva.com:443/pdfs/VipMasterIC/IC/BOUR/BOUR-S-A0008953887/BOUR-S-A0008953887-1.pdf?src-supplier=IHS+Markit; ComponentLink2URL: https://datasheet.ciiva.com/30490/0900766b812730ae-30490501.pdf?src-supplier=Rs; ComponentLink2Description: https://datasheet.ciiva.com/30490/0900766b812730ae-30490501.pdf?src-supplier=Rs; ComponentLink3URL: https://datasheet.ciiva.com/7606/1896412-7606203.pdf?src-supplier=Newark; ComponentLink3Description: https://datasheet.ciiva.com/7606/1896412-7606203.pdf?src-supplier=Newark; ComponentLink4URL: https://datasheet.ciiva.com/22713/659744-22713205.pdf?src-supplier=Element14; ComponentLink4Description: https://datasheet.ciiva.com/22713/659744-22713205.pdf?src-supplier=Element14; ComponentLink5URL: https://datasheet.ciiva.com/22644/659744-22644166.pdf?src-supplier=Element14; ComponentLink5Description: https://datasheet.ciiva.com/22644/659744-22644166.pdf?src-supplier=Element14; ComponentLink6URL: https://datasheet.ciiva.com/3255/cr0402-3255916.pdf?src-supplier=Avnet; ComponentLink6Description: https://datasheet.ciiva.com/3255/cr0402-3255916.pdf?src-supplier=Avnet; ComponentLink7URL: https://datasheet.ciiva.com/6562/cr0402-6562871.pdf?src-supplier=Digikey; ComponentLink7Description: https://datasheet.ciiva.com/6562/cr0402-6562871.pdf?src-supplier=Digikey; ComponentLink8URL: https://datasheet.ciiva.com/6562/cr0402-6562873.pdf?src-supplier=Digikey; ComponentLink8Description: https://datasheet.ciiva.com/6562/cr0402-6562873.pdf?src-supplier=Digikey; ComponentLink9URL: https://datasheet.ciiva.com/6562/cr0402-6562911.pdf?src-supplier=Digikey; ComponentLink9Description: https://datasheet.ciiva.com/6562/cr0402-6562911.pdf?src-supplier=Digikey; ComponentLink10URL: https://datasheet.ciiva.com/30133/cr0402-30133006.pdf?src-supplier=Onlinecomponents.com; ComponentLink10Description: https://datasheet.ciiva.com/30133/cr0402-30133006.pdf?src-supplier=Onlinecomponents.com
pins: 1 27, 2 28

## 10uF(16V) 0603
designator C?, comment 10uF(16V)
Ceramic Capacitor, Multilayer, Ceramic, 16V, 20% +Tol, 20% -Tol, X6S, 22% TC, 10uF, Surface Mount, 0603; Manufacturer: Samsung; Manufacturer Part Number: CL10X106MO8NRNC; Multilayer: Yes; Supplier: Avnet; Supplier Part Number: CL10X106MO8NRNC; RoHS: Yes; Category: Ceramic Capacitors; Stock: 86000; Pricing: 4000=0.03143, 8000=0.03062, 16000=0.0296, 24000=0.02857, 32000=0.02755 (USD); Mounting Technology: Surface Mount; Pins: 2; Dielectric Material: Ceramic; Package Shape: Rectangular; Case/Package: 0603; Min Operating Temperature: -55°C; Max Operating Temperature: 105°C; Value: 10uF; Capacitor Type: Ceramic; Tolerance  (fill in as +-): 20%; Packaging: Tape and Reel; Tolerance (fill in as +-): 20%; Rated DC Voltage (URdc): 16V; Temperature Characteristics Code: X6S; Termination: Wraparound; Reach SVHC Compliant: Yes; RoHS Compliant: Yes; ComponentLink1URL: https://datasheet.ciiva.com:443/pdfs/VipMasterIC/IC/SEMS/SEMS-S-A0008520559/SEMS-S-A0008520498-1.pdf?src-supplier=IHS+Markit; ComponentLink1Description: https://datasheet.ciiva.com:443/pdfs/VipMasterIC/IC/SEMS/SEMS-S-A0008520559/SEMS-S-A0008520498-1.pdf?src-supplier=IHS+Markit; ComponentLink2URL: https://datasheet.octopart.com/CL10X106MO8NRNC-Samsung-Electro-Mechanics-datasheet-149136962.pdf?src-supplier=Future+Electronics; ComponentLink2Description: https://datasheet.octopart.com/CL10X106MO8NRNC-Samsung-Electro-Mechanics-datasheet-149136962.pdf?src-supplier=Future+Electronics; ComponentLink3URL: http://www.samsungsem.com/kr/support/product-search/mlcc/CL10X106MO8NRNC.jsp?src-supplier=Digikey; ComponentLink3Description: http://www.samsungsem.com/kr/support/product-search/mlcc/CL10X106MO8NRNC.jsp?src-supplier=Digikey; ComponentLink4URL: https://datasheet.octopart.com/CL10X106MO8NRNC-Samsung-Electro-Mechanics-datasheet-181551473.pdf?src-supplier=Newark; ComponentLink4Description: https://datasheet.octopart.com/CL10X106MO8NRNC-Samsung-Electro-Mechanics-datasheet-181551473.pdf?src-supplier=Newark; ComponentLink5URL: https://datasheet.octopart.com/CL10X106MO8NRNC-Samsung-datasheet-8326407.pdf?src-supplier=TME; ComponentLink5Description: https://datasheet.octopart.com/CL10X106MO8NRNC-Samsung-datasheet-8326407.pdf?src-supplier=TME
footprint C0603
pins: 1 26, 2 25

## 16V ZD 0402
designator D?, comment 16V
Zener Diode, 16V V(Z), 5.56%, 0.25W, Silicon, Unidirectional; Manufacturer: Diodes; Manufacturer Part Number: BZT52C16LP-7; Package Body Material: Plastic; Additional Feature: HIGH RELIABILITY; Dynamic Impedance-Max: 40R; Number of Elements: 1; Max Power Dissipation: 250mW; Time @ Peak Reflow Temperature-Max (s): 40s; Test Current: 5mA; Qualification Status: Not Qualified; Supplier: Avnet; Supplier Part Number: BZT52C16LP-7; RoHS: Yes; Category: Zener Diodes; Stock: 45000; Pricing: 3000=0.05198, 6000=0.0516, 12000=0.05079, 18000=0.05, 24000=0.04941 (USD); Pins: 2; Diode Element Material: SILICON; Package Shape: Rectangular; Terminal Finish: Nickel; Min Operating Temperature: -65°C; Max Operating Temperature: 150°C; JESD-609 Code: e4; Polarity: Unidirectional; Diode Type: ZENER; Moisture Sensitivity Level: 1; Package Style: CHIP CARRIERMeter; Peak Reflow Temperature (Cel): 260°C; Reference Voltage-Nom: 16V; Surface Mount: Yes; Technology: ZENER; Terminal Form: No Lead; Terminal Position: BOTTOM; Voltage Tol-Max: 5.56%; Reach SVHC Compliant: Yes; RoHS Compliant: Yes; ComponentLink1URL: https://datasheet.ciiva.com:443/pdfs/VipMasterIC/IC/DIOD/DIOD-S-A0001070360/DIOD-S-A0001070360-1.pdf?src-supplier=IHS+Markit; ComponentLink1Description: https://datasheet.ciiva.com:443/pdfs/VipMasterIC/IC/DIOD/DIOD-S-A0001070360/DIOD-S-A0001070360-1.pdf?src-supplier=IHS+Markit; ComponentLink2URL: https://datasheet.ciiva.com/10642/ds30506-10642789.pdf?src-supplier=Avnet; ComponentLink2Description: https://datasheet.ciiva.com/10642/ds30506-10642789.pdf?src-supplier=Avnet
footprint Diode
pins: 1, 2

## 16V Zener diode
designator D?, comment 16V
Diode Zener Single 16V 5% 500mW Automotive 2-Pin SOD-123 T/R; Manufacturer: ON Semiconductor; Manufacturer Part Number: SZMMSZ5246BT1G; Supplier: Arrow Electronics; Supplier Part Number: SZMMSZ5246BT1G; RoHS: Yes; Category: Zener Diodes; Stock: 21000; Pricing: 1=0.126, 10=0.0807, 100=0.0626, 500=0.0611, 1000=0.0597, 3000=0.0399, 6000=0.0386 (USD); ComponentLink1URL: https://datasheet.ciiva.com/10638/mmsz5221bt1-d-10638284.pdf?src-supplier=Avnet; ComponentLink1Description: https://datasheet.ciiva.com/10638/mmsz5221bt1-d-10638284.pdf?src-supplier=Avnet; ComponentLink2URL: https://datasheet.ciiva.com/900/mmsz5221bt1-d-900242.pdf?src-supplier=Digikey; ComponentLink2Description: https://datasheet.ciiva.com/900/mmsz5221bt1-d-900242.pdf?src-supplier=Digikey
footprint Zener diode 16V
pins: 1, 2

## 20V, 5A Schottky diode
designator D?, comment RSX501LAM20TR  (value not drawn)
No Description Available; Manufacturer_Name: ROHM Semiconductor; Copyright: Copyright (C) 2025 Ultra Librarian. All rights reserved.; Manufacturer_Part_Number: RSX501LAM20TR; RefDes: RefDes; Type: Type
footprint DIO_RB050LAM_ROM
pins: 1, 2